# Altium schematic symbol library LDB-600L.SchLib: 1 symbol
Pins are listed as number, name and electrical type; pins without a type are passive.

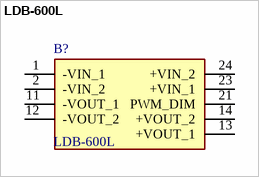
[diagram p0: symbol LDB-600L]

## LDB-600L
designator B?
LED Power Supplies 9-28Vin 2-30Vout 600mA pin style; Manufacturer_Name: Mean Well; Geometry.Height: 12.25mm; Mouser Part Number: 709-LDB-600L; Mouser Price/Stock: https://www.mouser.co.uk/ProductDetail/MEAN-WELL/LDB-600L/?qs=GaJ26EWJkZSmCfvt0r4d6g%3D%3D; Manufacturer_Part_Number: LDB-600L; Datasheet Link: https://www.meanwell.com/Upload/PDF/LDB-L/LDB-L-SPEC.PDF
footprint LDB600L
pins: 1 -VIN_1, 2 -VIN_2, 11 -VOUT_1, 12 -VOUT_2, 13 +VOUT_1, 14 +VOUT_2, 21 PWM_DIM, 23 +VIN_1, 24 +VIN_2